# Altium schematic symbol library VoltageReference.SchLib: 7 symbols
Pins are listed as number, name and electrical type; pins without a type are passive.

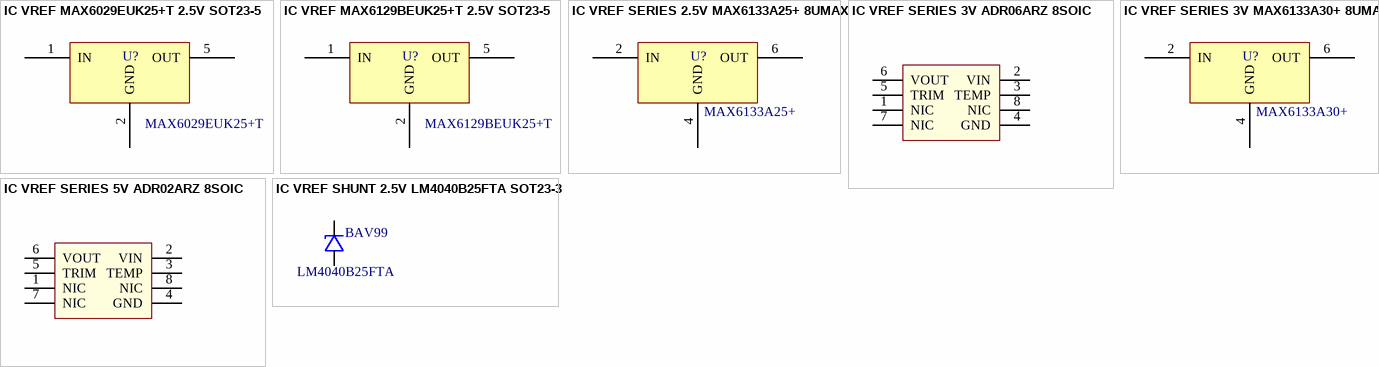
[diagram p0: symbols IC VREF MAX6029EUK25+T 2.5V SOT23-5 to IC VREF SHUNT 2.5V LM4040B25FTA SOT23-3]

## IC VREF MAX6029EUK25+T 2.5V SOT23-5
designator U?  value MAX6029EUK25+T  (hidden comment: *)
Series Voltage Reference IC  ±0.15% 4mA SOT-23-5; PartNumber1: MAX6029EUK25+T
footprint SOT23-5
pins: 1 IN, 2 GND (power), 3 hidden, 4 hidden, 5 OUT

## IC VREF MAX6129BEUK25+T 2.5V SOT23-5
designator U?  value MAX6129BEUK25+T  (hidden comment: *)
Series Voltage Reference IC  ±1% 4mA SOT-23-5; PartNumber1: MAX6129BEUK25+T
footprint SOT23-5
pins: 1 IN, 2 GND (power), 3 hidden, 4 hidden, 5 OUT

## IC VREF SERIES 2.5V MAX6133A25+ 8UMAX
designator U?  value MAX6133A25+  (hidden comment: *)
Series Voltage Reference IC  ±0.06% 15mA 8-uMAX; PartNumber1: MAX6133A25+
footprint uMAX8 (uMAX 8 LEAD)
pins: 1 NC1 hidden, 2 IN, 3 NC2 hidden, 4 GND (power), 5 IC2 hidden, 6 OUT, 7 NC3 hidden, 8 IC1 hidden

## IC VREF SERIES 3V ADR06ARZ 8SOIC
designator U?, comment ADR06ARZ
Series Voltage Reference IC  ±0.1% 10mA 8-SOIC; Part Number 1: ADR06ARZ-REEL7; Manufacturer 1: Analog Devices Inc.; AD: ADR06ARZ
footprint SOIC-8N
pins: 1 NIC, 2 VIN, 3 TEMP, 4 GND, 5 TRIM, 6 VOUT, 7 NIC, 8 NIC

## IC VREF SERIES 3V MAX6133A30+ 8UMAX
designator U?  value MAX6133A30+  (hidden comment: *)
Series Voltage Reference IC  ±0.06% 15mA 8-uMAX; PartNumber1: MAX6133A30+
footprint uMAX8 (uMAX 8 LEAD)
pins: 1 NC1 hidden, 2 IN, 3 NC2 hidden, 4 GND (power), 5 IC2 hidden, 6 OUT, 7 NC3 hidden, 8 IC1 hidden

## IC VREF SERIES 5V ADR02ARZ 8SOIC
designator U?, comment ADR02ARZ
Series Voltage Reference IC  ±0.1% 10mA 8-SOIC; Part Number 1: ADR02ARZ-REEL7; Manufacturer 1: Analog Devices Inc.; AD: ADR02ARZ
footprint SOIC-8N
pins: 1 NIC, 2 VIN, 3 TEMP, 4 GND, 5 TRIM, 6 VOUT, 7 NIC, 8 NIC

## IC VREF SHUNT 2.5V LM4040B25FTA SOT23-3
designator BAV99  value LM4040B25FTA  (hidden comment: *)
Shunt Voltage Reference IC ±0.5% 15mA SOT-23-3; PartNumber1: LM4040B25FTA
footprint SOT23-3 (SOT23, 3-Leads, Body 3,0x2,5mm (max), Pitch 0,83mm, IPC Medium Density)
pins: 1 K, 2 A